# Altium schematic symbol library F_M_lib.SchLib: 2 symbols
Pins are listed as number, name and electrical type; pins without a type are passive.

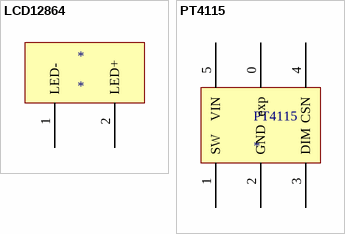
[diagram p0: symbols LCD12864 to PT4115]

## LCD12864
designator *
footprint LX_12864
pins: 1 LED-, 2 LED+

## PT4115
designator PT4115
footprint SOT89-5 (4.6x4.3x1.6mm(长宽高))
pins: 0 exp, 1 SW, 2 GND, 3 DIM, 4 CSN, 5 VIN